# Altium integrated library PGA-103_.IntLib: 1 symbol
Pins are listed as number, name and electrical type; pins without a type are passive.

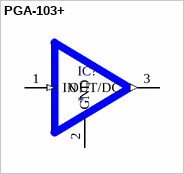
[diagram p0: symbol PGA-103+]

## PGA-103+
designator IC?
RF Amplifier IC CATV, Cellular, DBS, MMDS, PCS, WLAN, Wireless LAN 50MHz ~ 4GHz SOT-89; MF: Mini-Circuits; MP: PGA-103+; SnapEDA_Link: https://www.snapeda.com/parts/PGA-103+/Mini-Circuits/view-part/?ref=snap; Package: SOIC-8 Texas Instruments; Value: *; Check_prices: https://www.snapeda.com/parts/PGA-103+/Mini-Circuits/view-part/?ref=eda
footprint SOT-89
pins: 1 IN (in), 2 GND (power), 3 OUT/DC (out)